# Altium footprint library RSL10_PcbLib.PcbLib: 26 footprints (part 1 of 2)
Each footprint in its own frame and in the unit in brackets; x right, y up, seen from the top. Pads: shape width x height; smd on the part's side, far side on the other; paste and mask are expansions set on the pad; w line width, h text height; cw(c..) or ccw(c..) is an arc to the next point about the centre after c.
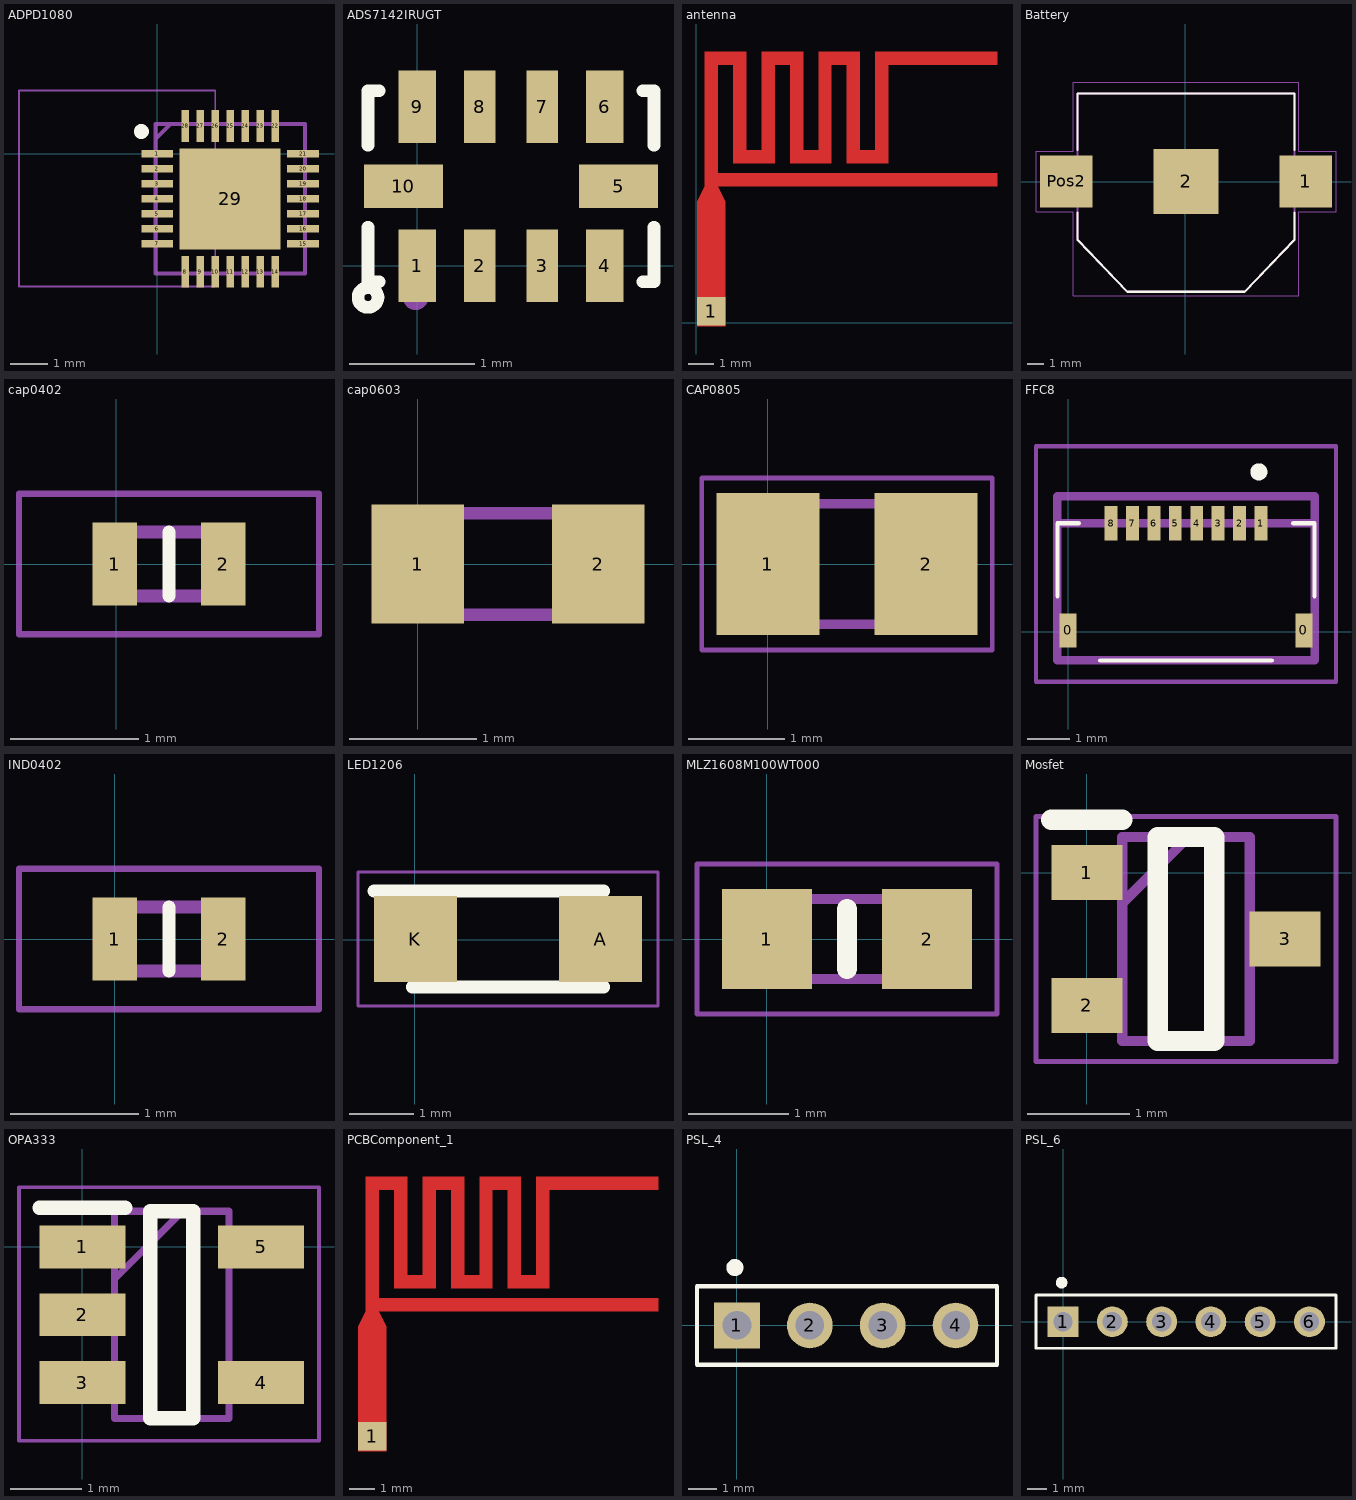
[diagram p0: the footprints below, top view; thin cyan lines are the x and y axes]

## ADPD1080 [mm]
pads (29):
  rect 0.85x0.2 smd: 1(0,0) 2(0,-0.4) 3(0,-0.8) 4(0,-1.2) 5(0,-1.6) 6(0,-2) 7(0,-2.4) 15(3.9,-2.4) 16(3.9,-2) 17(3.9,-1.6) 18(3.9,-1.2) 19(3.9,-0.8) 20(3.9,-0.4) 21(3.9,0)
  rect 0.2x0.85 smd: 8(0.75,-3.15) 9(1.15,-3.15) 10(1.55,-3.15) 11(1.95,-3.15) 12(2.35,-3.15) 13(2.75,-3.15) 14(3.15,-3.15) 22(3.15,0.75) 23(2.75,0.75) 24(2.35,0.75) 25(1.95,0.75) 26(1.55,0.75) 27(1.15,0.75) 28(0.75,0.75)
  rect 2.7x2.7 smd: 29(1.95,-1.2)
Top Overlay:
  circle w0.2: c-0.425,0.6 r0.1
Mechanical 15:
  lines w0.1: -0.05,0.4 0.35,0.8 ; -0.05,-3.2 3.95,-3.2 3.95,0.8 -0.05,0.8 -0.05,-3.2
Mechanical 20:
  lines w0.05: -3.7,-3.55 1.55,-3.55 1.55,1.7 -3.7,1.7 -3.7,-3.55
3D body "ADPD1080WBCPZR7.stp": height 0.8, standoff 0, extent -0.1,-3.25 4,0.85

## ADS7142IRUGT [mm]
pads (10):
  rect 0.3x0.58 smd paste+0 mask+0.051: 1(0,0) 4(1.5,0) 6(1.5,1.27) 9(0,1.27)
  rect 0.25x0.58 smd paste+0 mask+0.051: 2(0.5,0) 3(1,0) 7(1,1.27) 8(0.5,1.27)
  rect 0.63x0.35 smd paste+0 mask+0.051: 5(1.61,0.635) 10(-0.11,0.635)
Top Overlay:
  circle w0.1: c-0.393,-0.254 r0.08
  lines w0.1: -0.393,0.306 -0.393,-0.127 -0.304,-0.127 ; -0.393,0.964 -0.393,1.397 -0.304,1.397 ; 1.804,-0.127 1.893,-0.127 1.893,0.306 ; 1.804,1.397 1.893,1.397 1.893,0.964
Mechanical 15:
  circle w0.1: c-0.012,-0.254 r0.05
3D body "ADS7142IRUGT.stp": height 0.4, standoff 0, extent -0.275,-0.125 1.725,1.375

## antenna [mm]
pads (1):
  rect 1.1x1.1 smd paste-2539.97 mask+0.102: 1(0.575,0.45)
Top Layer:
  region: 0.025,4.675 0.325,5.275 0.325,10.475 1.925,10.475 1.925,6.675 2.525,6.675 2.525,10.475 4.125,10.475 4.125,6.675 4.725,6.675 4.725,10.475 6.325,10.475 6.325,6.675 6.925,6.675 6.925,10.475 11.625,10.475 11.625,9.975 7.425,9.975 7.425,6.175 5.825,6.175 5.825,9.975 5.225,9.975 5.225,6.175 3.625,6.175 3.625,9.975 3.025,9.975 3.025,6.175 1.425,6.175 1.425,9.975 0.825,9.975 0.825,5.775 11.625,5.775 11.625,5.275 0.825,5.275 1.125,4.675 1.125,-0.125 0.025,-0.125

## Battery [mm]
pads (3):
  rect 3.18x3.18 smd: 1(7.334,0.015) Pos2(-7.266,0.015)
  rect 3.96x3.96 smd paste-3: 2(0.034,0.015)
Top Overlay:
  lines w0.127: -6.571,-1.895 -6.571,-3.555 -3.536,-6.71 3.604,-6.71 6.639,-3.555 6.639,-1.895 ; -6.571,1.925 -6.571,5.36 6.639,5.36 6.639,1.925
Mechanical 13:
  lines w0.127: -6.571,-3.555 -3.536,-6.71 3.604,-6.71 6.639,-3.555 6.639,5.36 -6.571,5.36 -6.571,-3.555
Mechanical 15:
  lines w0.05: -9.106,-1.825 -9.106,1.855 -6.821,1.855 -6.821,6.065 6.889,6.065 6.889,1.855 9.174,1.855 9.174,-1.825 6.889,-1.825 6.889,-6.96 -6.821,-6.96 -6.821,-1.825 -9.106,-1.825
3D body "step_temp.STEP": height 5.97, standoff 0, extent -8.856,-6.018 8.924,6.044

## cap0402 [mm]
pads (2):
  rect 0.35x0.65 smd: 1(-0.011,0.001) 2(0.839,0.001)
Top Overlay:
  lines w0.1: 0.414,-0.249 0.414,0.251
Mechanical 15:
  lines w0.1: -0.086,-0.249 0.914,-0.249 0.914,0.251 -0.086,0.251 -0.086,-0.249
Mechanical 20:
  lines w0.05: -0.761,-0.549 1.589,-0.549 1.589,0.551 -0.761,0.551 -0.761,-0.549
3D body "GRM155R60G225ME15D.stp": height 0.55, standoff 0, extent -0.075,-0.25 0.925,0.25

## cap0603 [mm]
pads (2):
  rect 0.73x0.94 smd: 1(0,0) 2(1.42,0)
Mechanical 15:
  lines w0.1: -0.09,-0.4 1.51,-0.4 1.51,0.4 -0.09,0.4 -0.09,-0.4
3D body "CL10A335KP8NNNC.stp": height 0.9, standoff 0, extent -0.1,-0.4 1.5,0.4

## CAP0805 [mm]
pads (2):
  rect 1.07x1.47 smd: 1(0,0) 2(1.64,0)
Mechanical 15:
  lines w0.1: -0.18,-0.625 -0.18,0.625 1.82,0.625 1.82,-0.625 -0.18,-0.625
Mechanical 20:
  lines w0.05: -0.685,-0.89 -0.685,0.89 2.325,0.89 2.325,-0.89 -0.685,-0.89
3D body "0805J2000472JDR.stp": height 1.3, standoff 0, extent -0.18,-0.625 1.82,0.625

## FFC8 [mm]
pads (10):
  rect 0.4x0.8 smd: 0(0,0.026) 0(5.5,0.026)
  rect 0.3x0.8 smd: 1(4.5,2.526) 2(4,2.526) 3(3.5,2.526) 4(3,2.526) 5(2.5,2.526) 6(2,2.526) 7(1.5,2.526) 8(1,2.526)
Top Overlay:
  lines w0.1: -0.25,0.826 -0.25,2.526 0.25,2.526 ; 0.75,-0.674 4.75,-0.674 ; 5.25,2.526 5.75,2.526 5.75,0.826
  lines w0.2: 4.35,3.726 ccw(c4.45,3.726) 4.55,3.726 ccw(c4.45,3.726) 4.35,3.726
Mechanical 15:
  lines w0.2: -0.25,2.526 5.75,2.526 ; -0.25,2.526 -0.25,-0.674 5.75,-0.674 5.75,2.526 ; -0.25,2.526 5.75,2.526 ; -0.25,2.526 -0.25,3.156 5.75,3.156 5.75,2.526
Mechanical 20:
  lines w0.1: -0.75,-1.174 6.25,-1.174 6.25,4.326 -0.75,4.326 -0.75,-1.174
3D body "2328702-8.stp": height 1.11, standoff 0.05, extent -0.25,-0.682 5.75,3.15

## IND0402 [mm]
pads (2):
  rect 0.35x0.65 smd: 1(0,0) 2(0.85,0)
Top Overlay:
  lines w0.1: 0.425,-0.25 0.425,0.25
Mechanical 15:
  lines w0.1: -0.075,-0.25 -0.075,0.25 0.925,0.25 0.925,-0.25 -0.075,-0.25
Mechanical 20:
  lines w0.05: -0.75,-0.55 -0.75,0.55 1.6,0.55 1.6,-0.55 -0.75,-0.55
3D body "LQG15HS3N0S02D.stp": height 0.55, standoff 0, extent -0.075,-0.25 0.925,0.25

## LED1206 [mm]
pads (2):
  rect 1.3x1.35 smd: A(2.912,0.013) K(0.012,0.013)
Top Overlay:
  lines w0.2: -0.638,0.763 2.962,0.763 ; -0.038,-0.737 2.962,-0.737
Mechanical 15:
  lines w0.1: -0.038,0.113 0.612,0.763 ; -0.038,-0.737 -0.038,0.763 2.962,0.763 2.962,-0.737 -0.038,-0.737
Mechanical 20:
  lines w0.05: -0.888,-1.037 -0.888,1.063 3.812,1.063 3.812,-1.037 -0.888,-1.037

## MLZ1608M100WT000 [mm]
pads (2):
  rect 0.9x1 smd: 1(0,0) 2(1.6,0)
Top Overlay:
  lines w0.2: 0.8,-0.3 0.8,0.3
Mechanical 15:
  lines w0.1: 0,-0.4 0,0.4 1.6,0.4 1.6,-0.4 0,-0.4
Mechanical 20:
  lines w0.05: -0.7,-0.75 -0.7,0.75 2.3,0.75 2.3,-0.75 -0.7,-0.75
3D body "MLZ1608M100WT000.stp": height 0.95, standoff 0, extent 0,-0.4 1.6,0.4

## Mosfet [mm]
pads (3):
  rect 0.695x0.54 smd: 1(0,0) 2(0,-1.3) 3(1.944,-0.65)
Top Overlay:
  lines w0.2: -0.348,0.52 0.347,0.52 ; 0.697,-1.65 1.247,-1.65 1.247,0.35 0.697,0.35 0.697,-1.65
Mechanical 15:
  lines w0.1: 0.347,-0.3 0.997,0.35 ; 0.347,-1.65 1.597,-1.65 1.597,0.35 0.347,0.35 0.347,-1.65
Mechanical 20:
  lines w0.05: -0.498,-1.85 2.442,-1.85 2.442,0.55 -0.498,0.55 -0.498,-1.85
3D body "RU1J002YNTCL.stp": height 1.05, standoff 0, extent -0.1,-1.65 2,0.35

## OPA333 [mm]
pads (5):
  rect 1.2x0.6 smd: 1(0,0) 2(0,-0.95) 3(0,-1.9) 4(2.5,-1.9) 5(2.5,0)
Top Overlay:
  lines w0.2: -0.6,0.55 0.6,0.55 ; 0.95,-2.4 0.95,0.5 1.55,0.5 1.55,-2.4 0.95,-2.4
Mechanical 15:
  lines w0.1: 0.45,-0.45 1.4,0.5 ; 0.45,-2.4 0.45,0.5 2.05,0.5 2.05,-2.4 0.45,-2.4
Mechanical 20:
  lines w0.05: -0.888,-2.714 -0.888,0.836 3.312,0.836 3.312,-2.714 -0.888,-2.714
3D body "OPA333AIDBVR.stp": height 1.2, standoff 0, extent -0.15,-2.45 2.65,0.45

## PCBComponent_1 [mm]
pads (1):
  rect 1.1x1.1 smd mask+0.102: 1(-1259.55,-1260.9)
Top Layer:
  region: -1260.1,-1256.675 -1259.8,-1256.075 -1259.8,-1250.875 -1258.2,-1250.875 -1258.2,-1254.675 -1257.6,-1254.675 -1257.6,-1250.875 -1256,-1250.875 -1256,-1254.675 -1255.4,-1254.675 -1255.4,-1250.875 -1253.8,-1250.875 -1253.8,-1254.675 -1253.2,-1254.675 -1253.2,-1250.875 -1248.5,-1250.875 -1248.5,-1251.375 -1252.7,-1251.375 -1252.7,-1255.175 -1254.3,-1255.175 -1254.3,-1251.375 -1254.9,-1251.375 -1254.9,-1255.175 -1256.5,-1255.175 -1256.5,-1251.375 -1257.1,-1251.375 -1257.1,-1255.175 -1258.7,-1255.175 -1258.7,-1251.375 -1259.3,-1251.375 -1259.3,-1255.575 -1248.5,-1255.575 -1248.5,-1256.075 -1259.3,-1256.075 -1259,-1256.675 -1259,-1261.475 -1260.1,-1261.475

## PSL_4 [mm]
pads (4):
  rect 1.6x1.6 hole 1: 1(0,0)
  round 1.6 hole 1: 2(2.55,0) 3(5.1,0) 4(7.65,0)
Top Overlay:
  circle w0.3: c-0.075,2.025 r0.15
  lines w0.15: -1.4,-1.375 -1.4,1.375 9.1,1.375 9.1,-1.375 -1.4,-1.375
3D body "1x4 Male Pin Header.STEP": height 10.54, standoff -3, extent -1.232,-1.25 8.933,1.25

## PSL_6 [mm]
pads (6):
  rect 1.6x1.6 hole 1: 1(0,0)
  round 1.6 hole 1: 2(2.55,0) 3(5.1,0) 4(7.65,0) 5(10.2,0) 6(12.75,0)
Top Overlay:
  circle w0.3: c-0.075,2.025 r0.15
  lines w0.15: -1.4,-1.375 -1.4,1.375 14.125,1.375 14.125,-1.375 -1.4,-1.375
3D body "1x6 Male Pin Header.STEP": height 10.54, standoff -3, extent -1.27,-1.25 13.975,1.25